# Altium schematic symbol library Pads.SchLib: 7 symbols
Pins are listed as number, name and electrical type; pins without a type are passive.

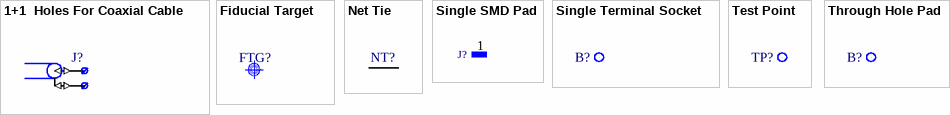
[diagram p0: symbols 1+1  Holes For Coaxial Cable to Through Hole Pad]

## 1+1  Holes For Coaxial Cable
designator J?
1+1  Holes For Coaxial Cable
pins: 1 (io), 2 (io)

## Fiducial Target
designator FTG?, comment Use only in PCB  (value not drawn)
Fiducial Target

## Net Tie
designator NT?  (net tie, no BOM)
Net Tie
pins: 1 (io), 2 (io)
1 alternate drawing of the same symbol

## Single SMD Pad
designator J?
Single SMD Pad
pins: 1 (io)

## Single Terminal Socket
designator B?
Single Terminal Socket
pins: 1 (io)

## Test Point
designator TP?
Test Point
pins: 1 (io)

## Through Hole Pad
designator B?
Through Hole Pad
footprint c130h60 (Plated Through Hole: Hole Dia.=0.6mm Pad Dia.=1.30mm)
footprint c130h80 (Plated Through Hole: Hole Dia.=0.8mm Pad Dia.=1.30mm, , IPC-7251 Level C)
footprint c140h90 (Plated Through Hole: Hole Dia.=0.9mm Pad Dia.=1.4mm, IPC-7251 Level C)
footprint c150h30 (Plated Through Hole: Hole Dia.=0.3mm Pad Dia.=1.5mm)
footprint c150h80 (Plated Through Hole: Hole Dia.=0.8mm Pad Dia.=1.50mm, , IPC-7251 Level A)
footprint c150h100 (Plated Through Hole: Hole Dia.=1mm Pad Dia.=1.5mm, IPC-7251 Level C)
footprint c160h90 (Plated Through Hole: Hole Dia.=0.9mm Pad Dia.=1.6mm, IPC-7251 Level A)
footprint c160h110 (Plated Through Hole: Hole Dia.=1.1mm Pad Dia.=1.6mm, IPC-7251 Level C)
footprint c170h100 (Plated Through Hole: Hole Dia.=1mm Pad Dia.=1.7mm, IPC-7251 Level A)
footprint c170h120 (Plated Through Hole: Hole Dia.=1.2mm Pad Dia.=1.7mm, IPC-7251 Level C)
footprint c180h110 (Plated Through Hole: Hole Dia.=1.1mm Pad Dia.=1.8mm, IPC-7251 Level A)
footprint c180h130 (Plated Through Hole: Hole Dia.=1.3mm Pad Dia.=1.8mm, IPC-7251 Level C)
footprint c190h120 (Plated Through Hole: Hole Dia.=1.2mm Pad Dia.=1.9mm, IPC-7251 Level A)
footprint c190h140 (Plated Through Hole: Hole Dia.=1.4mm Pad Dia.=1.9mm, IPC-7251 Level C)
footprint C200H120 (Plated Through Hole: Hole Dia.=1.2mm Pad Dia.=2.0mm)
footprint c200h130 (Plated Through Hole: Hole Dia.=1.3mm Pad Dia.=2.0mm, IPC-7251 Level A)
footprint c200h150 (Plated Through Hole: Hole Dia.=1.5mm Pad Dia.=2.0mm, IPC-7251 Level C)
footprint c210h140 (Plated Through Hole: Hole Dia.=1.4mm Pad Dia.=2.1mm, IPC-7251 Level A)
footprint c220h150 (Plated Through Hole: Hole Dia.=1.5mm Pad Dia.=2.2mm, IPC-7251 Level A)
footprint c300h160 (Plated Through Hole: Hole Dia.=1.6mm Pad Dia.=3mm)
footprint c350h200 (Plated Through Hole: Hole Dia.=2mm Pad Dia.=3.5mm)
pins: 1 (io)